# Altium footprint library MCXE31B.PcbLib: 35 footprints (part 3 of 3)
Each footprint in its own frame and in the unit in brackets; x right, y up, seen from the top. Pads: shape width x height; smd on the part's side, far side on the other; paste and mask are expansions set on the pad; w line width, h text height; cw(c..) or ccw(c..) is an arc to the next point about the centre after c.
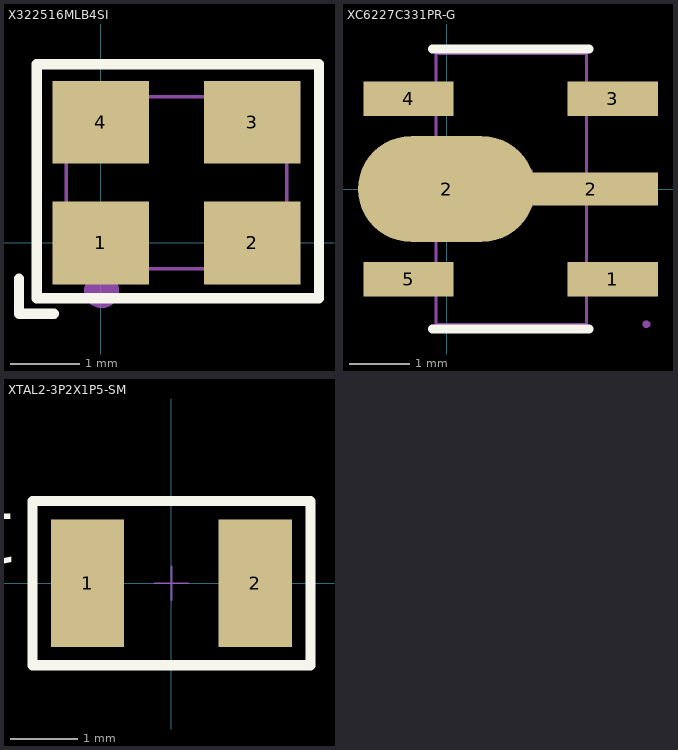
[diagram p2: the footprints below, top view; thin cyan lines are the x and y axes]

## X322516MLB4SI [mm]
height 13.3
pads (4):
  rect 1.4x1.2 smd paste+0.051: 1(0,0) 2(2.2,0) 3(2.2,1.75) 4(0,1.75)
Top Overlay:
  lines w0.152: -1.186,-0.522 -1.186,-1.03 -0.678,-1.03 ; -0.929,-0.804 3.171,-0.804 3.171,2.596 -0.929,2.596 -0.929,-0.804
Bottom Courtyard:
  lines w0.051: -0.5,-0.375 2.7,-0.375 2.7,2.125 -0.5,2.125 -0.5,-0.375
Bottom 3D Body:
  region: -0.44,-0.375 -0.44,-0.4 -0.475,-0.435 -0.525,-0.435 -0.56,-0.4 -0.56,-0.375 -0.56,-0.35 -0.525,-0.315 -0.475,-0.315 -0.44,-0.35
Top Component Center:
  region: 1.7,0.426 2.6,0.426 2.6,-0.374 1.7,-0.374
  region: -0.4,0.426 0.5,0.426 0.5,-0.374 -0.4,-0.374
  region: -0.4,2.124 0.5,2.124 0.5,1.324 -0.4,1.324
  region: 1.7,2.124 2.6,2.124 2.6,1.324 1.7,1.324
Bottom Assembly:
  circle w0.254: c0.012,-0.692 r0.127
  region: -0.368,1.695 0.267,1.695 0.267,1.822 -0.368,1.822
  region: -0.106,2.082 -0.106,1.447 0.021,1.447 0.021,2.082
  region: -0.638,0.339 -0.602,0.339 -0.602,0.267 -0.638,0.267
  region: -0.602,0.339 -0.566,0.339 -0.566,0.267 -0.602,0.267
  region: -0.566,0.375 -0.53,0.375 -0.53,0.267 -0.566,0.267
  region: -0.53,0.411 -0.494,0.411 -0.494,0.303 -0.53,0.303
  region: -0.494,0.411 -0.458,0.411 -0.458,-0.129 -0.494,-0.129
  region: -0.458,0.447 -0.422,0.447 -0.422,-0.129 -0.458,-0.129
  region: -0.422,0.447 -0.386,0.447 -0.386,-0.129 -0.422,-0.129
  region: -0.386,0.447 -0.35,0.447 -0.35,-0.129 -0.386,-0.129

## XC6227C331PR-G [mm]
height 13.3
pads (6):
  rect 1.5x0.574 smd paste-100 mask+0.051: 1(2.765,-1.5) 3(2.765,1.5) 4(-0.63,1.5) 5(-0.63,-1.5)
  oval 2.94x1.76 smd paste-100 mask+0.051: 2(0,0)
  rect 2.209x0.552 smd paste-100 mask+0.051: 2(2.41,0)
Top Overlay:
  lines w0.152: -0.234,-2.326 2.369,-2.326 ; -0.234,2.326 2.369,2.326
Top Paste:
  region: 3.515,-1.787 3.515,-1.213 2.015,-1.213 2.015,-1.787
  region: 3.515,1.213 3.515,1.787 2.015,1.787 2.015,1.213
  region: 0.12,-1.787 0.12,-1.213 -1.38,-1.213 -1.38,-1.787
  region: 0.12,1.213 0.12,1.787 -1.38,1.787 -1.38,1.213
  region: -1.472,0 -1.472,-0.05 -1.468,-0.131 -1.43,-0.287 -1.364,-0.434 -1.273,-0.567 -1.159,-0.681 -1.026,-0.772 -0.879,-0.838 -0.723,-0.876 -0.642,-0.88 0.828,-0.88 0.934,-0.849 1.126,-0.736 1.283,-0.579 1.397,-0.387 1.428,-0.28 3.518,-0.28 3.518,0.28 1.428,0.28 1.397,0.387 1.283,0.578 1.126,0.736 0.934,0.849 0.828,0.88 -0.592,0.88 -0.679,0.88 -0.849,0.846 -1.009,0.78 -1.153,0.683 -1.276,0.561 -1.372,0.417 -1.439,0.257 -1.472,0.087
Mechanical 2:
  circle w0.254: c3.16,-1.511 r0.127
Bottom Courtyard:
  lines w0.051: -0.172,-2.25 -0.173,2.251 2.327,2.251 2.327,-2.251 -0.172,-2.25
Bottom 3D Body:
  region: 3.385,-2.251 3.385,-2.276 3.349,-2.311 3.3,-2.311 3.265,-2.276 3.265,-2.251 3.265,-2.227 3.3,-2.191 3.349,-2.191 3.385,-2.227
Top Component Center:
  region: -1.163,1.71 -0.163,1.71 -0.163,1.29 -1.163,1.29
  region: -1.163,-1.29 -0.163,-1.29 -0.163,-1.71 -1.163,-1.71
  region: 2.305,-1.293 3.305,-1.293 3.305,-1.713 2.305,-1.713
  region: 2.304,1.71 3.304,1.71 3.304,1.29 2.304,1.29
  region: -0.171,0.801 -0.472,0.801 -0.473,0.8 -0.772,0.5 -0.772,-0.5 -0.472,-0.799 -0.172,-0.8 0.829,-0.785 1.424,-0.291 1.432,0.312 0.688,0.776
  region: 1.425,0.2 3.325,0.2 3.325,-0.2 1.425,-0.2

## XTAL2-3P2X1P5-SM [mm]
pads (2):
  rect 1.092x1.905 smd: 1(-1.25,0.001) 2(1.25,0.001)
Top Overlay:
  lines w0.152: -2.075,-1.224 2.075,-1.224 2.075,1.225 -2.075,1.225 -2.075,0.301 -2.075,-1.224
  text "1" at -2.274,1.036 h0.76
Top Component Center:
  lines w0.025: -0.254,0.001 0.254,0.001 ; 0,-0.253 0,0.255